# Altium schematic symbol library TAJD226K025RNJ.SchLib: 1 symbol
Pins are listed as number, name and electrical type; pins without a type are passive.

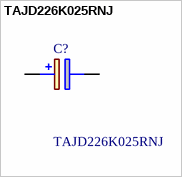
[diagram p0: symbol TAJD226K025RNJ]

## TAJD226K025RNJ
designator C?
TAJ SMT tant capacitor,Case D,25V,22uF AVX +/-10% 22uF 25 V dc SMD Tantalum Electrolytic Capacitor, 7343-31 ESR 900m +125C TAJ; Geometry.Height: 3.1mm; Mouser Part Number: 581-TAJD226K025R; Mouser Price/Stock: https://www.mouser.co.uk/ProductDetail/AVX/TAJD226K025RNJ?qs=min0%252Bk%2FlUAa%252BdXCotYsVZg%3D%3D; Manufacturer_Name: AVX; Manufacturer_Part_Number: TAJD226K025RNJ; Datasheet Link: http://datasheets.avx.com/TAJ.pdf
footprint CAPPM7344X310N
pins: 1 +, 2 -